# Altium footprint library Passives-SMD_C.PCBLIB: 14 footprints
Each footprint in its own frame and in the unit in brackets; x right, y up, seen from the top. Pads: shape width x height; smd on the part's side, far side on the other; paste and mask are expansions set on the pad; w line width, h text height; cw(c..) or ccw(c..) is an arc to the next point about the centre after c.
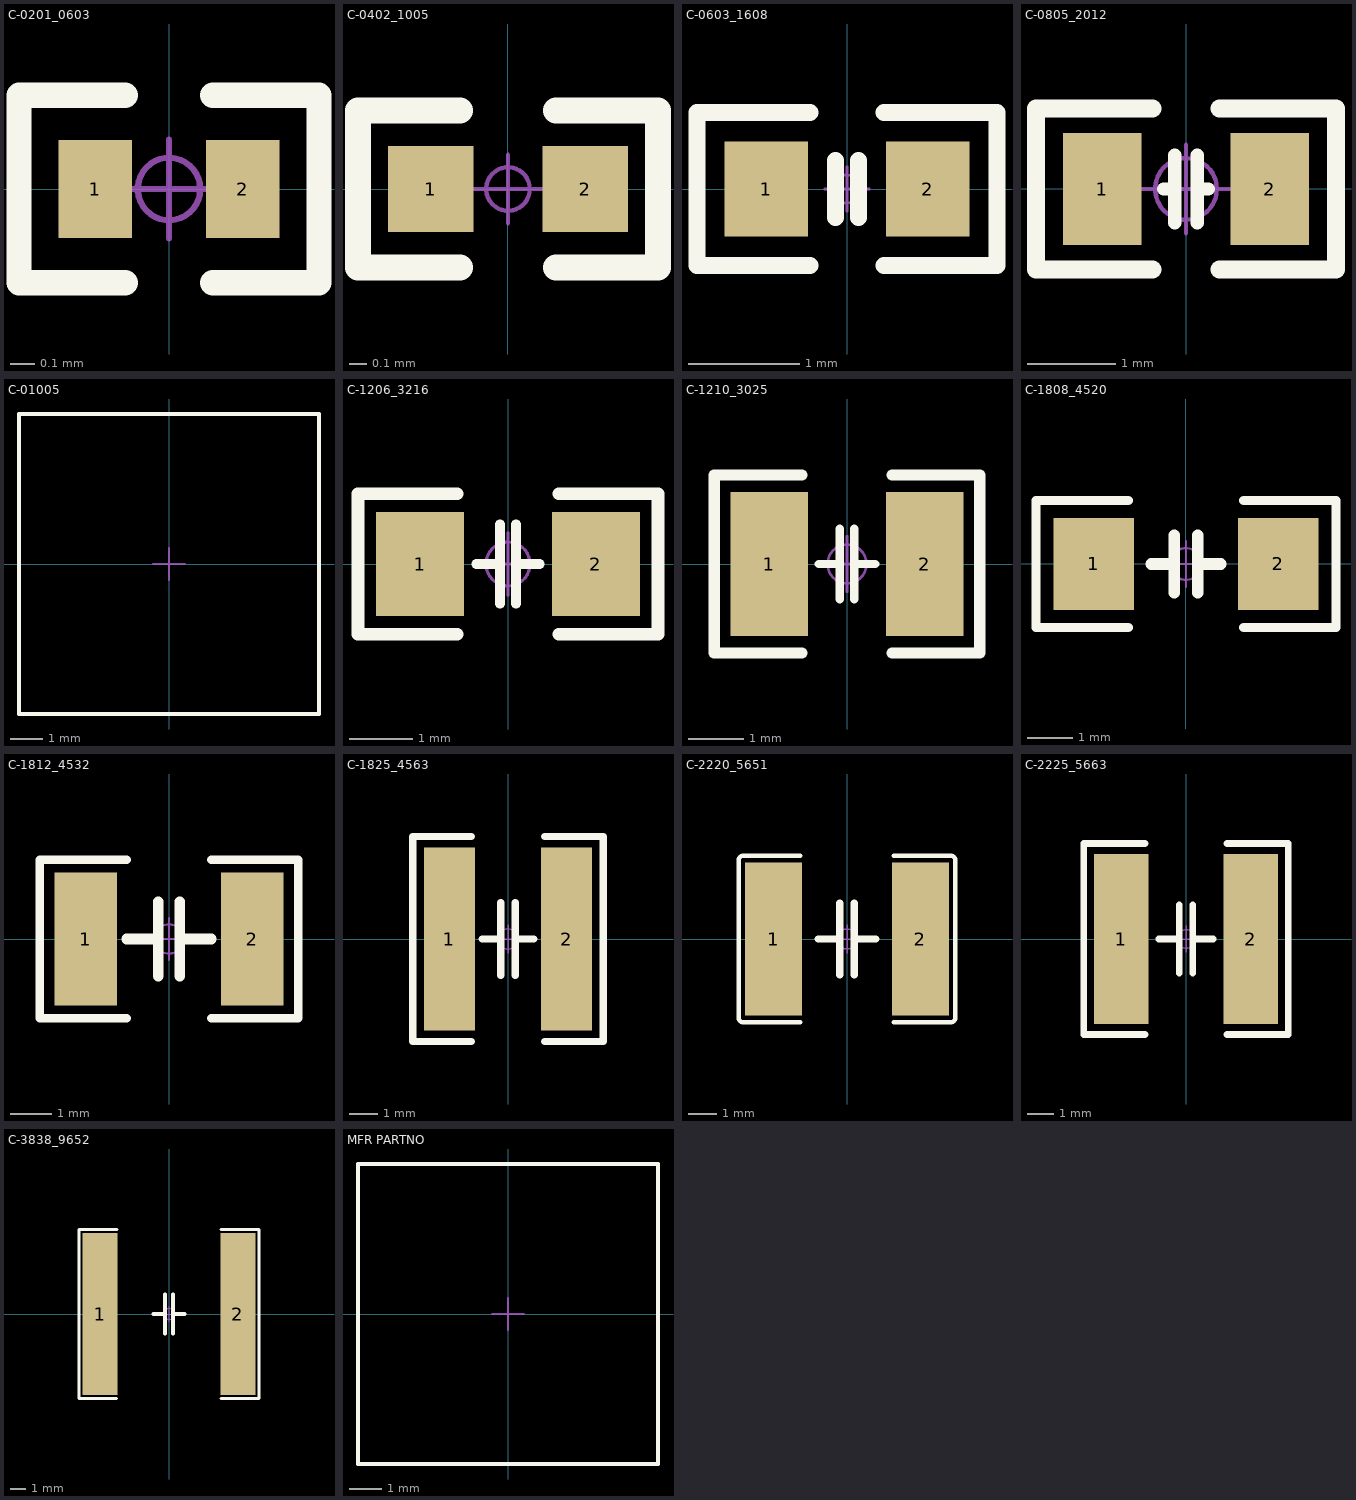
[diagram p0: the footprints below, top view; thin cyan lines are the x and y axes]

## C-0201_0603 [mm]
pads (2):
  rect 0.3x0.4 smd: 1(-0.3,0) 2(0.3,0)
Top Overlay:
  lines w0.102: -0.178,-0.381 -0.61,-0.381 -0.61,0.381 -0.178,0.381 ; 0.178,-0.381 0.61,-0.381 0.61,0.381 0.178,0.381
Top 中心点:
  circle w0.025: c0,0 r0.127
  lines w0.025: -0.2,0 0.2,0 ; 0,-0.2 0,0.2
3D body "C0201-2S.stp": height 0.3, standoff 0, extent -0.3,-0.15 0.3,0.15

## C-0402_1005 [mm]
pads (2):
  rect 0.5x0.5 smd: 1(-0.45,0) 2(0.45,0)
Top Overlay:
  lines w0.152: -0.279,-0.457 -0.875,-0.457 -0.875,0.457 -0.279,0.457 ; 0.279,-0.457 0.875,-0.457 0.875,0.457 0.279,0.457
Top 中心点:
  circle w0.025: c0,0 r0.127
  lines w0.025: -0.2,0 0.2,0 ; 0,-0.2 0,0.2
3D body "C0402-B-2S.stp": height 0.5, standoff 0, extent -0.5,-0.25 0.5,0.25

## C-0603_1608 [mm]
pads (2):
  rect 0.75x0.85 smd: 1(-0.725,0) 2(0.725,0)
Top Overlay:
  lines w0.152: -0.33,-0.686 -1.346,-0.686 -1.346,0.686 -0.33,0.686 ; -0.102,-0.254 -0.102,0.254 ; 0.102,-0.254 0.102,0.254 ; 0.33,-0.686 1.346,-0.686 1.346,0.686 0.33,0.686
Top 中心点:
  circle w0.025: c0,0 r0.127
  lines w0.025: -0.2,0 0.2,0 ; 0,-0.2 0,0.2
3D body "C0603H08-2S.stp": height 0.8, standoff 0, extent -0.8,-0.4 0.8,0.4

## C-0805_2012 [mil]
pads (2):
  rect 35x50 smd: 1(-37.4,0) 2(37.4,0)
Top Overlay:
  lines w6: -10,0 -5,0 ; -5,-15 -5,15 ; 5,-15 5,15 ; 5,0 10,0
  lines w8: -15,-36 -66.93,-36 -66.93,36 -15,36 ; 15,-36 66.93,-36 66.93,36 15,36
Top 中心点:
  circle w1.97: c0,0 r13.78
  circle w1.97: c0,0 r13.78
  lines w1.97: -19.68,0 19.68,0 -19.68,0 ; 0,-19.68 0,19.68 0,-19.68
3D body "C0805H13-2S.stp": height 51.18, standoff -0.04, extent -39.36,-25.58 39.38,25.6

## C-01005 [mm]
Top Overlay:
  lines w0.127: -4.7,-4.7 -4.7,4.7 4.7,4.7 4.7,-4.7 -4.7,-4.7
Top 元件外形:
  lines w0.127: -4.7,-4.7 4.7,-4.7 4.7,4.7 -4.7,4.7 -4.7,-4.7
Top 中心点:
  lines w0.051: -0.5,0 0.5,0 ; 0,-0.5 0,0.5

## C-1206_3216 [mm]
pads (2):
  rect 1.4x1.65 smd: 1(-1.4,0) 2(1.4,0)
Top Overlay:
  lines w0.152: -0.508,0 -0.127,0 ; -0.127,-0.635 -0.127,0.635 ; 0.127,-0.635 0.127,0.635 ; 0.127,0 0.508,0
  lines w0.203: -0.813,-1.118 -2.388,-1.118 -2.388,1.118 -0.813,1.118 ; 0.813,-1.118 2.388,-1.118 2.388,1.118 0.813,1.118
Top 中心点:
  circle w0.05: c0,0 r0.35
  lines w0.05: -0.5,0 0.5,0 ; 0,-0.5 0,0.5
3D body "C1206-2S.stp": height 1.1, standoff 0, extent -1.6,-0.798 1.6,0.798

## C-1210_3025 [mm]
pads (2):
  rect 1.4x2.6 smd: 1(-1.4,0) 2(1.4,0)
Top Overlay:
  lines w0.152: -0.508,0 -0.127,0 ; -0.127,-0.635 -0.127,0.635 ; 0.127,-0.635 0.127,0.635 ; 0.127,0 0.508,0
  lines w0.203: -0.813,-1.6 -2.388,-1.6 -2.388,1.6 -0.813,1.6 ; 0.813,-1.6 2.388,-1.6 2.388,1.6 0.813,1.6
Top 中心点:
  circle w0.05: c0,0 r0.35
  lines w0.05: -0.5,0 0.5,0 ; 0,-0.5 0,0.5
3D body "C1210-2S.stp": height 0.92, standoff 0.02, extent -1.6,-1.26 1.6,1.26

## C-1808_4520 [mil]
pads (2):
  rect 70x80 smd: 1(-80,0) 2(80,0)
Top Overlay:
  lines w8: -50,-55 -130,-55 -130,55 -50,55 ; 50,-55 130,-55 130,55 50,55
  lines w10: -30,0 -10,0 ; -10,-25 -10,25 ; 10,-25 10,25 ; 10,0 30,0
Top 中心点:
  circle w1.97: c0,0 r13.78
  lines w1.97: -19.68,0 19.68,0 ; 0,-19.68 0,19.68
3D body "C1808H20-2S.stp": height 80.7, standoff 1.92, extent -88.53,-39.34 88.54,39.36

## C-1812_4532 [mm]
pads (2):
  rect 1.5x3.2 smd: 1(-2,0) 2(2,0)
Top Overlay:
  lines w0.203: -1.016,-1.905 -3.1,-1.905 -3.1,1.905 -1.016,1.905 ; 1.016,-1.905 3.1,-1.905 3.1,1.905 1.016,1.905
  lines w0.254: -1.016,0 -0.254,0 ; -0.254,-0.889 -0.254,0.889 ; 0.254,-0.889 0.254,0.889 ; 0.254,0 1.016,0
Top 中心点:
  circle w0.05: c0,0 r0.35
  lines w0.05: -0.5,0 0.5,0 ; 0,-0.5 0,0.5
3D body "C1812H26-2S.stp": height 2.6, standoff 0, extent -2.25,-1.6 2.25,1.6

## C-1825_4563 [mil]
pads (2):
  rect 70x250 smd: 1(-80,0) 2(80,0)
Top Overlay:
  lines w10: -50,-140 -130,-140 -130,140 -50,140 ; -35,0 -10,0 ; -10,-50 -10,50 ; 10,-50 10,50 ; 10,0 35,0 ; 50,-140 130,-140 130,140 50,140
Top 中心点:
  circle w1.97: c0,0 r13.78
  lines w1.97: -19.68,0 19.68,0 ; 0,-19.68 0,19.68
3D body "C1825H11-2S.stp": height 43.31, standoff -0.08, extent -88.58,-125.98 88.59,125.99

## C-2220_5651 [mm]
pads (2):
  rect 2.009x5.4 smd mask+0.051: 1(-2.581,0) 2(2.581,0)
Top Overlay:
  lines w0.152: -3.814,-2.776 ccw(c-3.661,-2.776) -3.661,-2.929 ; -3.814,2.776 cw(c-3.661,2.776) -3.661,2.929 ; -3.813,-2.776 -3.813,2.776 ; -3.66,-2.929 -1.651,-2.929 ; -3.66,2.929 -1.651,2.929 ; 1.651,-2.929 3.66,-2.929 ; 1.651,2.929 3.66,2.929 ; 3.661,-2.929 ccw(c3.661,-2.776) 3.814,-2.776 ; 3.661,2.929 cw(c3.661,2.776) 3.814,2.776 ; 3.813,-2.776 3.813,2.776
  lines w0.254: -1.016,0 -0.254,0 ; -0.254,-1.27 -0.254,1.27 ; 0.254,-1.27 0.254,1.27 ; 0.254,0 1.016,0
Top Paste:
  region: 1.575,-2.601 1.575,-1.019 1.674,-0.917 2.159,-0.917 2.258,-0.818 2.258,0.818 2.159,0.917 1.674,0.917 1.575,1.019 1.575,2.601 1.674,2.7 3.485,2.7 3.584,2.601 3.584,-2.601 3.485,-2.7 1.674,-2.7
  region: -1.575,-2.601 -1.575,-1.019 -1.674,-0.917 -2.159,-0.917 -2.258,-0.818 -2.258,0.818 -2.159,0.917 -1.674,0.917 -1.575,1.019 -1.575,2.601 -1.674,2.7 -3.485,2.7 -3.584,2.601 -3.584,-2.601 -3.485,-2.7 -1.674,-2.7
Top 中心点:
  circle w0.05: c0,0 r0.35
  lines w0.05: -0.5,0 0.5,0 ; 0,-0.5 0,0.5
3D body "C2220H25-2S.stp": height 2.5, standoff 0, extent -2.85,-2.5 2.85,2.5

## C-2225_5663 [mil]
pads (2):
  rect 80x250 smd: 1(-95,0) 2(95,0)
Top Overlay:
  lines w10: -60,-140 -150,-140 -150,140 -60,140 ; -40,0 -10,0 ; -10,-50 -10,50 ; 10,-50 10,50 ; 10,0 40,0 ; 60,-140 150,-140 150,140 60,140
Top 中心点:
  circle w1.97: c0,0 r13.78
  lines w1.97: -19.68,0 19.68,0 ; 0,-19.68 0,19.68
3D body "C 2225.STEP": height 65.39, standoff 1.61, extent -110.24,-125.4 110.24,125.39

## C-3838_9652 [mm]
pads (2):
  rect 2.266x10.475 smd mask+0.051: 1(-4.453,0) 2(4.453,0)
Top Overlay:
  lines w0.203: -3.404,-5.466 -5.814,-5.466 -5.814,5.466 -3.378,5.466 ; 3.353,5.466 5.814,5.466 5.814,-5.466 ; 3.378,-5.466 5.817,-5.466
  lines w0.254: -1.016,0 -0.254,0 ; -0.254,-1.27 -0.254,1.27 ; 0.254,-1.27 0.254,1.27 ; 0.254,0 1.016,0
Top 中心点:
  circle w0.05: c0,0 r0.35
  lines w0.05: -0.5,0 0.5,0 ; 0,-0.5 0,0.5
3D body "C3838H43-2S.stp": height 4.32, standoff 0, extent -4.835,-4.835 4.835,4.835

## MFR PARTNO [mm] "记得设置高度"
Top Overlay:
  lines w0.127: -4.7,-4.7 4.7,-4.7 4.7,4.7 -4.7,4.7 -4.7,-4.7
Top 元件外形:
  lines w0.127: -4.7,-4.7 -4.7,4.7 4.7,4.7 4.7,-4.7 -4.7,-4.7
Top 中心点:
  lines w0.051: -0.5,0 0.5,0 ; 0,-0.5 0,0.5